# Altium footprint library PCB - POTENTIOMETER - BOURNS PTV112 4425A.PcbLib: 1 footprints
Each footprint in its own frame and in the unit in brackets; x right, y up, seen from the top. Pads: shape width x height; smd on the part's side, far side on the other; paste and mask are expansions set on the pad; w line width, h text height; cw(c..) or ccw(c..) is an arc to the next point about the centre after c.
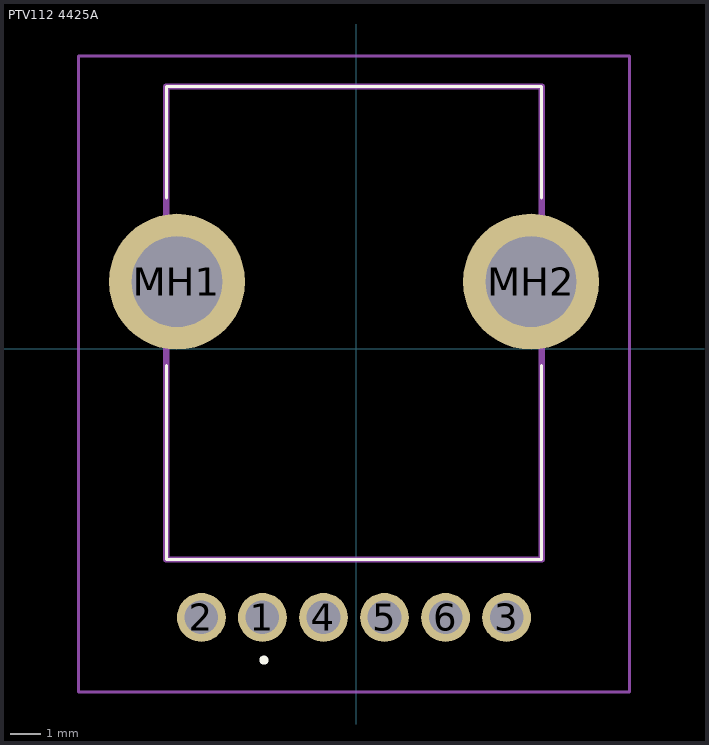
[diagram p0: the footprint, top view; thin cyan lines are the x and y axes]

## PTV112 4425A [mm]
pads (8):
  round 1.6 hole 1.1 paste+0 mask+0.051: 1(-3.067,-8.803) 2(-5.067,-8.803) 3(4.933,-8.803) 4(-1.067,-8.803) 5(0.933,-8.803) 6(2.933,-8.803)
  round 4.455 hole 2.97 slot 2.97 at 0 deg paste+0 mask+0.051: MH1(-5.867,2.197) MH2(5.733,2.197)
Top Overlay:
  lines w0.1: -6.217,-6.903 6.083,-6.903 ; -6.217,-6.903 6.083,-6.903 ; -6.217,-6.903 -6.217,-0.553 -6.217,-6.903 ; -6.217,8.597 -6.217,4.947 -6.217,8.597 ; -6.217,8.597 6.083,8.597 ; -6.217,8.597 6.083,8.597 ; 6.083,-6.903 6.083,-0.553 6.083,-6.903 ; 6.083,8.597 6.083,4.947 6.083,8.597
  lines w0.2: -3.067,-10.203 ccw(c-3.017,-10.203) -2.967,-10.203 ; -3.067,-10.203 cw(c-3.017,-10.203) -2.967,-10.203 ; -3.067,-10.203 ccw(c-3.017,-10.203) -2.967,-10.203
Mechanical 15:
  lines w0.2: -6.217,-6.903 6.083,-6.903 6.083,8.597 -6.217,8.597 -6.217,-6.903
Mechanical 29:
  lines w0.1: -9.094,-11.253 -9.094,9.597 8.96,9.597 8.96,-11.253 -9.094,-11.253
  text "'.Designator'" at -1.143,-1.143 h1.52
3D body "PTV112-4420A-B503--3DModel-STEP-269445.STEP": height 20, standoff -3.8, extent -7.288,-8.964 7.112,8.636